# Altium schematic symbol library CAP 225J 400V.SchLib: 1 symbol
Pins are listed as number, name and electrical type; pins without a type are passive.

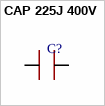
[diagram p0: symbol CAP 225J 400V]

## CAP 225J 400V
designator C?
footprint CAP 225J 400V
pins: 1 C, 2 A